# Altium footprint library LM2904PSR.PcbLib: 3 footprints
Each footprint in its own frame and in the unit in brackets; x right, y up, seen from the top. Pads: shape width x height; smd on the part's side, far side on the other; paste and mask are expansions set on the pad; w line width, h text height; cw(c..) or ccw(c..) is an arc to the next point about the centre after c.
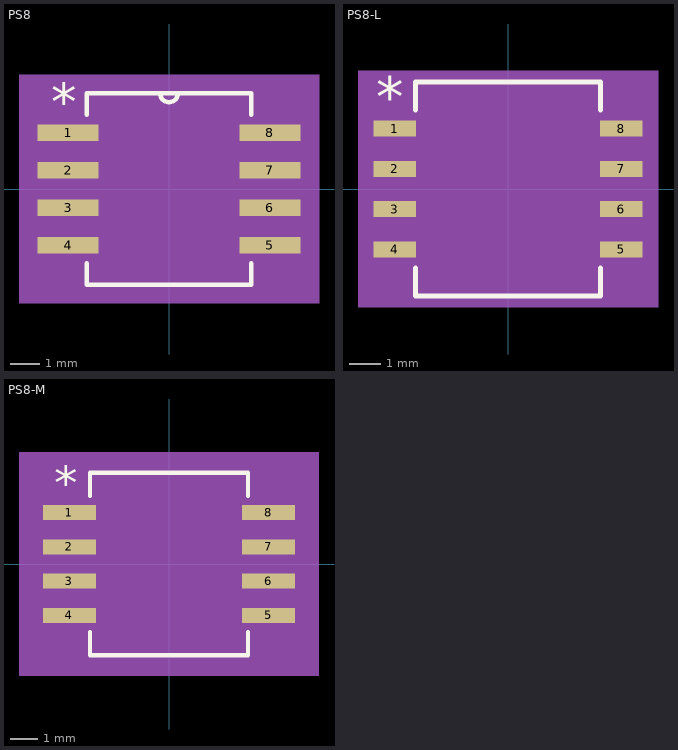
[diagram p0: the footprints below, top view; thin cyan lines are the x and y axes]

## PS8 [mil]
pads (8):
  rect 81x22 smd: 1(-135,75) 2(-135,25) 3(-135,-25) 4(-135,-75) 5(135,-75) 6(135,-25) 7(135,25) 8(135,75)
Top Overlay:
  lines w6: -110,-99.1 -110,-128 110,-128 110,-99.1 ; -110,99.1 -110,128 110,128 110,99.1 ; -12,128 ccw(c0,128) 12,128
  text "*" at -157.5,92 h50
Mechanical 5:
  region: 200.5,-153 -200.5,-153 -200.5,153 200.5,153
Mechanical 13:
  lines w0: -12,128 ccw(c0,128) 12,128
  lines w1: -161.5,-85 -161.5,-65 -110,-65 -110,-85 -161.5,-85 ; -161.5,-35 -161.5,-15 -110,-15 -110,-35 -161.5,-35 ; -161.5,15 -161.5,35 -110,35 -110,15 -161.5,15 ; -161.5,65 -161.5,85 -110,85 -110,65 -161.5,65 ; -110,-128 110,-128 110,128 -110,128 -110,-128 ; 110,-85 110,-65 161.5,-65 161.5,-85 110,-85 ; 110,-35 110,-15 161.5,-15 161.5,-35 110,-35 ; 110,15 110,35 161.5,35 161.5,15 110,15 ; 110,65 110,85 161.5,85 161.5,65 110,65
  text "*" at -157.5,92 h50
Mechanical 15:
  region: 185.5,-138 -185.5,-138 -185.5,138 185.5,138
  lines w6: -185.5,-138 -185.5,138 185.5,138 185.5,-138 -185.5,-138
3D body "PS8.step": height 79.09, standoff 0, extent -161.5,-127.99 161.5,127.99

## PS8-L [mil]
pads (8):
  rect 53x20 smd paste+0 mask+0: 1(-141,75) 2(-141,25) 3(-141,-25) 4(-141,-75) 5(141,-75) 6(141,-25) 7(141,25) 8(141,75)
Top Overlay:
  lines w6: -115,-98.1 -115,-133 115,-133 115,-98.1 ; -115,98.1 -115,133 115,133 115,98.1
  text "*" at -163.5,90 h50
Mechanical 5:
  region: 186.5,-147 -186.5,-147 -186.5,147 186.5,147
Mechanical 13:
  lines w0: -12,128 ccw(c0,128) 12,128
  lines w1: -161.5,-85 -161.5,-65 -110,-65 -110,-85 -161.5,-85 ; -161.5,-35 -161.5,-15 -110,-15 -110,-35 -161.5,-35 ; -161.5,15 -161.5,35 -110,35 -110,15 -161.5,15 ; -161.5,65 -161.5,85 -110,85 -110,65 -161.5,65 ; -110,-128 110,-128 110,128 -110,128 -110,-128 ; 110,-85 110,-65 161.5,-65 161.5,-85 110,-85 ; 110,-35 110,-15 161.5,-15 161.5,-35 110,-35 ; 110,15 110,35 161.5,35 161.5,15 110,15 ; 110,65 110,85 161.5,85 161.5,65 110,65
  text "*" at -107.5,75 h50
Mechanical 15:
  region: -114,-89 -171.5,-89 -171.5,89 -114,89 -114,132 114,132 114,89 171.5,89 171.5,-89 114,-89 114,-132 -114,-132
  lines w6: -171.5,-89 -171.5,89 -114,89 -114,132 114,132 114,89 171.5,89 171.5,-89 114,-89 114,-132 -114,-132 -114,-89 -171.5,-89
3D body "PS8.step": height 79.09, standoff 0, extent -161.5,-127.99 161.5,127.99

## PS8-M [mil]
pads (8):
  rect 77x22 smd paste+0 mask+0: 1(-145,75) 2(-145,25) 3(-145,-25) 4(-145,-75) 5(145,-75) 6(145,-25) 7(145,25) 8(145,75)
Top Overlay:
  lines w6: -115,-99.1 -115,-133 115,-133 115,-99.1 ; -115,99.1 -115,133 115,133 115,99.1
  text "*" at -167.5,92 h50
Mechanical 5:
  region: 218.5,-163 -218.5,-163 -218.5,163 218.5,163
Mechanical 13:
  lines w0: -12,128 ccw(c0,128) 12,128
  lines w1: -161.5,-85 -161.5,-65 -110,-65 -110,-85 -161.5,-85 ; -161.5,-35 -161.5,-15 -110,-15 -110,-35 -161.5,-35 ; -161.5,15 -161.5,35 -110,35 -110,15 -161.5,15 ; -161.5,65 -161.5,85 -110,85 -110,65 -161.5,65 ; -110,-128 110,-128 110,128 -110,128 -110,-128 ; 110,-85 110,-65 161.5,-65 161.5,-85 110,-85 ; 110,-35 110,-15 161.5,-15 161.5,-35 110,-35 ; 110,15 110,35 161.5,35 161.5,15 110,15 ; 110,65 110,85 161.5,85 161.5,65 110,65
  text "*" at -107.5,75 h50
Mechanical 15:
  region: -130,-106 -203.5,-106 -203.5,106 -130,106 -130,148 130,148 130,106 203.5,106 203.5,-106 130,-106 130,-148 -130,-148
  lines w6: -203.5,-106 -203.5,106 -130,106 -130,148 130,148 130,106 203.5,106 203.5,-106 130,-106 130,-148 -130,-148 -130,-106 -203.5,-106
3D body "PS8.step": height 79.09, standoff 0, extent -161.5,-127.99 161.5,127.99